# EAGLE library part LT5400ACMS8E-3 (library RESISTORS)
100000 100k 10k 10k 100k MS8E 0.8W 0.01% 4x RESISTOR ARRAY
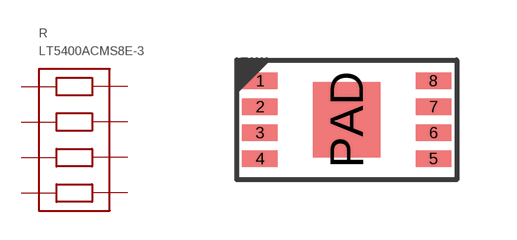
[diagram p4: symbol with the pads of MS8E; footprint MS8E]

Designator prefix R

## LT5400ACMS8E-3MS8E (DIGIKEY: LT5400ACMS8E-3#PBF; HEIGHT: 1; PRICE_PER: 18.25; VALUE: 100K 10K)  [MS8E]
1  1
2  2
3  3
4  4
5  5
6  6
7  7
8  8

## Footprint MS8E (pad centres in mm)
smd 0.889 x 0.42: 1 -2.171,0.975; 2 -2.171,0.325; 3 -2.171,-0.325; 4 -2.171,-0.975; 5 2.171,-0.975; 6 2.171,-0.325; 7 2.171,0.325; 8 2.171,0.975
smd 1.68 x 1.88: PAD 0,0